# Altium footprint library termometr.PcbLib: 17 footprints (part 1 of 2)
Each footprint in its own frame and in the unit in brackets; x right, y up, seen from the top. Pads: shape width x height; smd on the part's side, far side on the other; paste and mask are expansions set on the pad; w line width, h text height; cw(c..) or ccw(c..) is an arc to the next point about the centre after c.
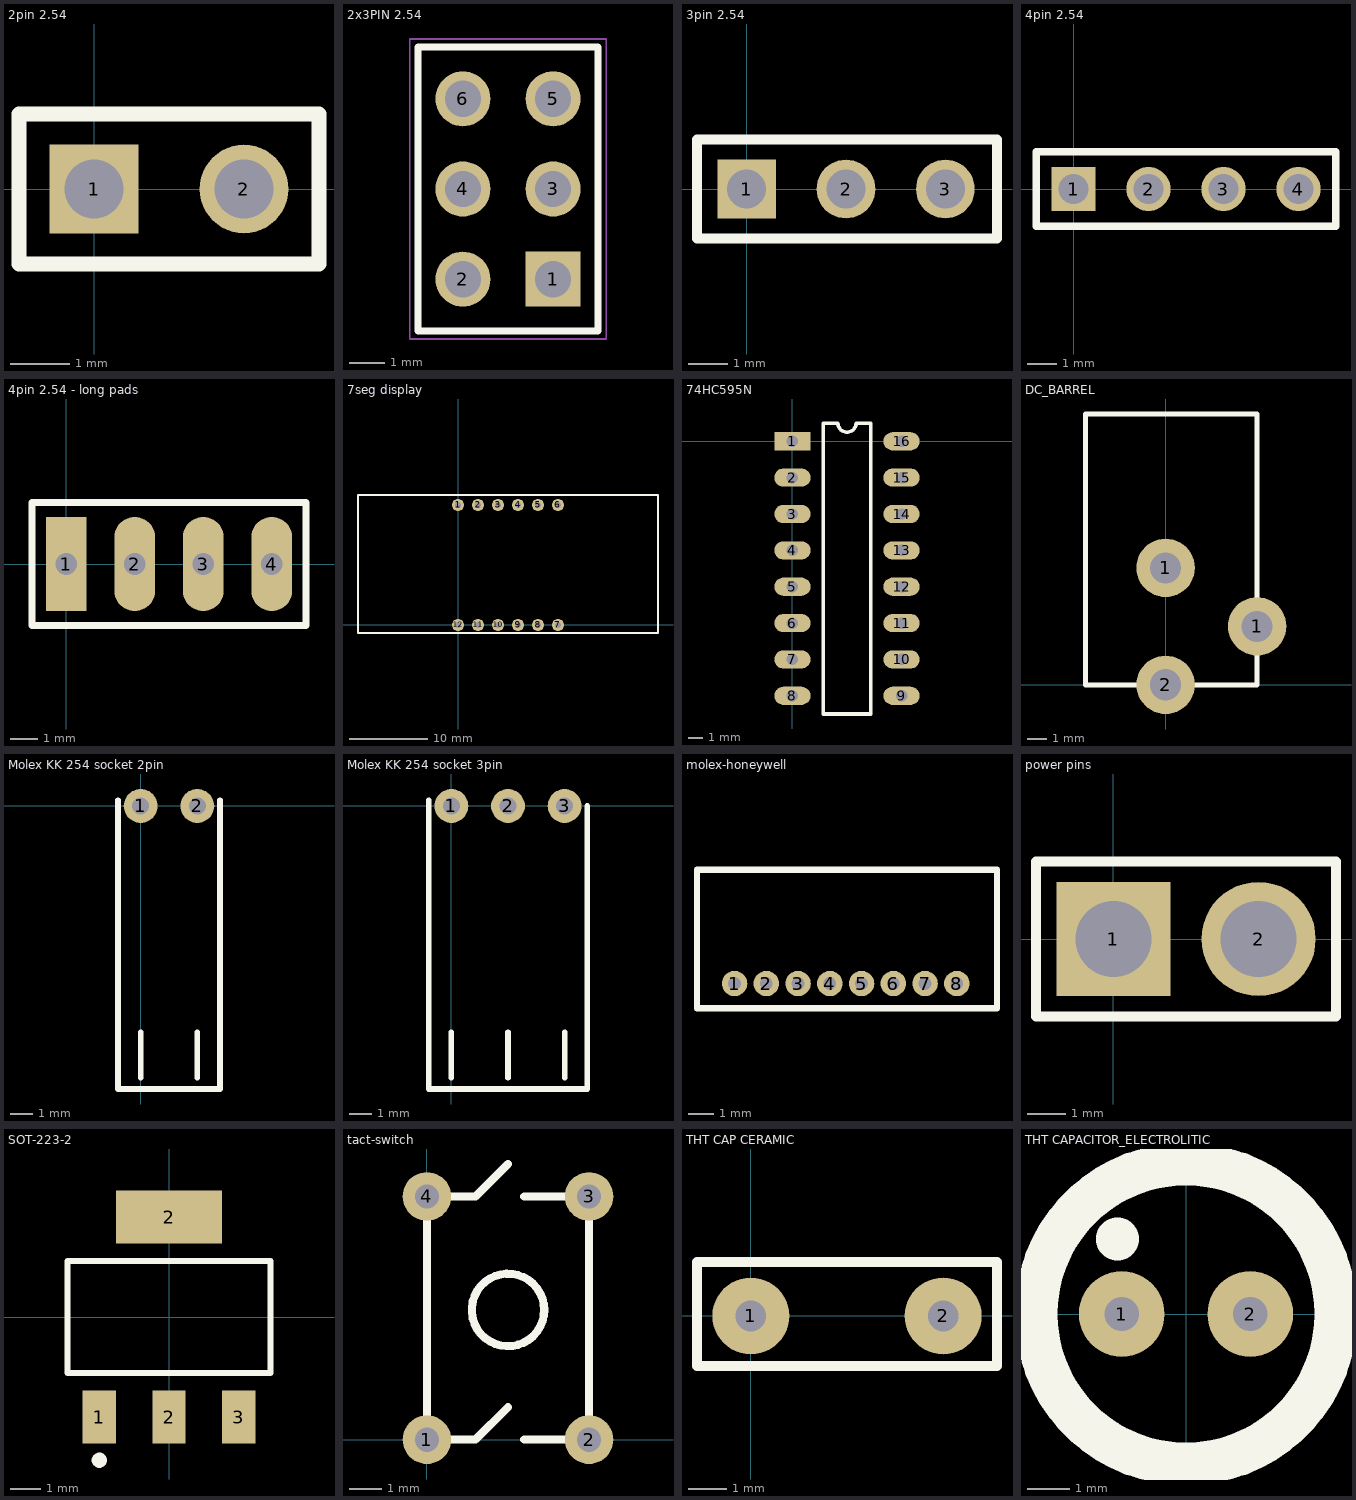
[diagram p0: the footprints below, top view; thin cyan lines are the x and y axes]

## 2pin 2.54 [mm] "Listwa ko³kowa, raster 2.54mm"
pads (2):
  rect 1.5x1.5 hole 1: 1(0,0)
  round 1.5 hole 1: 2(2.54,0)
Top Overlay:
  lines w0.254: -1.27,-1.27 -1.27,1.27 3.81,1.27 3.81,-1.27 -1.27,-1.27

## 2x3PIN 2.54 [mm]
pads (6):
  rect 1.55x1.55 hole 1.02: 1(106.426,-237.49)
  round 1.55 hole 1.02: 2(103.886,-237.49) 3(106.426,-234.95) 4(103.886,-234.95) 5(106.426,-232.41) 6(103.886,-232.41)
Top Overlay:
  lines w0.2: 102.616,-238.95 107.696,-238.95 107.696,-230.95 102.616,-230.95 102.616,-238.95
Mechanical 13:
  lines w0.1: 102.616,-238.95 107.696,-238.95 107.696,-230.95 102.616,-230.95 102.616,-238.95
Mechanical 15:
  lines w0.05: 102.391,-239.175 107.921,-239.175 107.921,-230.725 102.391,-230.725 102.391,-239.175
3D body: height 8.38, standoff -5.08, extent 102.616,-238.76 107.696,-231.14

## 3pin 2.54 [mm] "Listwa ko³kowa, raster 2.54mm"
pads (3):
  rect 1.5x1.5 hole 1: 1(0,0)
  round 1.5 hole 1: 2(2.54,0) 3(5.08,0)
Top Overlay:
  lines w0.254: -1.27,-1.27 -1.27,1.27 6.4,1.27 6.4,-1.27 -1.27,-1.27

## 4pin 2.54 [mm] "Listwa ko³kowa, raster 2.54mm"
pads (4):
  rect 1.5x1.5 hole 1: 1(0,0)
  round 1.5 hole 1: 2(2.54,0) 3(5.08,0) 4(7.62,0)
Top Overlay:
  lines w0.254: -1.27,-1.27 -1.27,1.27 8.89,1.27 8.89,-1.27 -1.27,-1.27

## 4pin 2.54 - long pads [mm]
pads (4):
  rect 1.5x3.5 hole 0.8: 1(0,0)
  oval 1.5x3.5 hole 0.8: 2(2.54,0) 3(5.08,0) 4(7.62,0)
Top Overlay:
  lines w0.254: -1.27,-2.286 -1.27,2.286 8.89,2.286 8.89,-2.286 -1.27,-2.286

## 7seg display [mil] "Wyœwietlacz siedmiosegmentowy 3-cyfrowy"
height 393.7
pads (12):
  round 60 hole 30: 1(0,600) 2(100,600) 3(200,600) 4(300,600) 5(400,600) 6(500,600) 7(500,0) 8(400,0) 9(300,0) 10(200,0) 11(100,0) 12(0,0)
Top Overlay:
  lines w10: -500,-40 -500,650 1000,650 1000,-40 -500,-40

## 74HC595N [mil]
pads (16):
  rect 100x50 hole 31.5: 1(0,0)
  oval 100x50 hole 31.5: 2(0,-100) 3(0,-200) 4(0,-300) 5(0,-400) 6(0,-500) 7(0,-600) 8(0,-700) 9(300,-700) 10(300,-600) 11(300,-500) 12(300,-400) 13(300,-300) 14(300,-200) 15(300,-100) 16(300,0)
Top Overlay:
  lines w10: 85,-750 85,50 125,50 ccw(c150,50) 175,50 215,50 215,-750 85,-750

## DC_BARREL [mm]
pads (3):
  round 3 hole 1.6: 1(0,6) 1(4.7,3) 2(0,0)
Top Overlay:
  lines w0.254: -4.1,0 4.7,0 4.7,13.9 -4.1,13.9 -4.1,0

## Molex KK 254 socket 2pin [mil]
pads (2):
  round 60 hole 30: 1(0,0) 2(100,0)
Top Overlay:
  lines w10: -40,10 -40,-40 -40,-500 140,-500 140,-70 140,10 ; 0,-480 0,-400 ; 100,-480 100,-400

## Molex KK 254 socket 3pin [mil]
pads (3):
  round 60 hole 30: 1(0,0) 2(100,0) 3(200,0)
Top Overlay:
  lines w10: -40,10 -40,-40 -40,-500 240,-500 240,-40 240,0 ; 0,-480 0,-400 ; 100,-480 100,-400 ; 200,-480 200,-400

## molex-honeywell [mm]
pads (8):
  round 1 hole 0.5: 1(-52.75,81.75) 2(-51.5,81.75) 3(-50.25,81.75) 4(-49,81.75) 5(-47.75,81.75) 6(-46.5,81.75) 7(-45.25,81.75) 8(-44,81.75)
Top Overlay:
  lines w0.254: -54.229,80.772 -42.418,80.772 -42.418,86.233 -54.229,86.233 -54.229,80.772
3D body: height 3.51, standoff -2.29, extent -54.225,80.725 -42.475,86.225

## power pins [mm]
pads (2):
  rect 3x3 hole 2: 1(0,0)
  round 3 hole 2: 2(3.81,0)
Top Overlay:
  lines w0.254: -2.032,-2.032 -2.032,2.032 5.842,2.032 5.842,-2.032 -2.032,-2.032

## SOT-223-2 [mm] "SOT-223/SC-73; 4 Leads; Body 6.7 x 7.3 mm, inc. leads (LxW max)"
height 1.75
pads (4):
  rect 1.1x1.75 smd: 1(-2.3,-3.3) 2(0,-3.3) 3(2.3,-3.3)
  rect 3.5x1.75 smd: 2(0,3.3)
Top Overlay:
  circle w0.25: c-2.3,-4.725 r0.125
  lines w0.2: -3.35,-1.85 3.35,-1.85 3.35,1.85 -3.35,1.85 -3.35,-1.85
3D body: height 1.85, standoff -0.05, extent -3.35,-3.704 3.35,3.5

## tact-switch [mil]
height 200
pads (4):
  round 60 hole 30: 1(0,0) 2(200,0) 3(200,300) 4(0,300)
Top Overlay:
  circle w10: c100,160 r44.72
  lines w10: 100,40 60,0 0,0 0,300 60,300 100,340 ; 120,0 200,0 200,300 120,300

## THT CAP CERAMIC [mm]
pads (2):
  round 2 hole 0.8: 1(0,0) 2(5,0)
Top Overlay:
  lines w0.254: -1.4,-1.3 -1.4,1.4 6.4,1.4 6.4,-1.3 -1.4,-1.3

## THT CAPACITOR_ELECTROLITIC [mm]
pads (2):
  round 2 hole 0.8: 1(-1.5,0) 2(1.5,0)
Top Overlay:
  circle w0.8: c-1.6,1.75 r0.1
  circle w1: c0,0 r3.5